# Altium footprint library FC-13532.7680KA-AC-ND.PcbLib: 1 footprints
Each footprint in its own frame and in the unit in brackets; x right, y up, seen from the top. Pads: shape width x height; smd on the part's side, far side on the other; paste and mask are expansions set on the pad; w line width, h text height; cw(c..) or ccw(c..) is an arc to the next point about the centre after c.
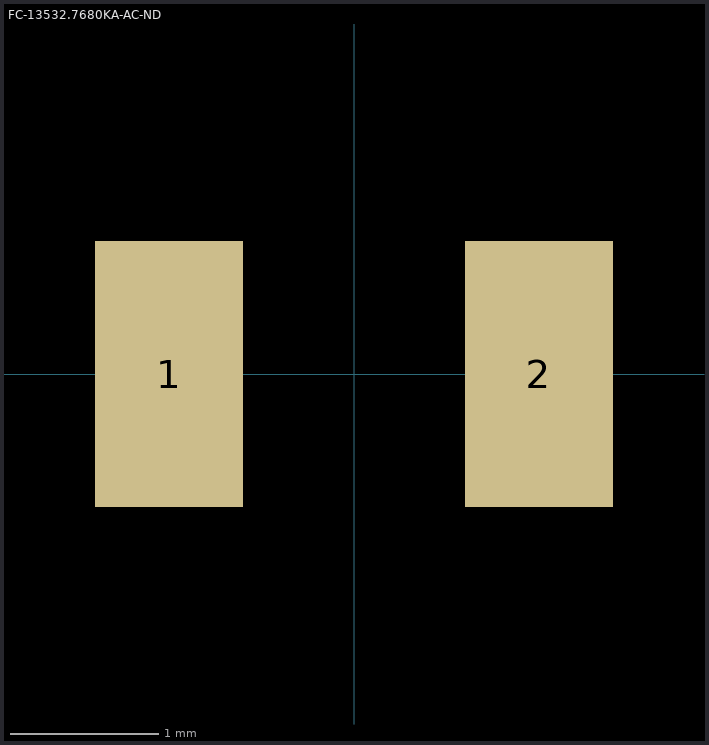
[diagram p0: the footprint, top view; thin cyan lines are the x and y axes]

## FC-13532.7680KA-AC-ND [mm]
pads (2):
  rect 1x1.8 smd: 1(-1.25,0) 2(1.25,0)
3D body: height 0.9, standoff 0, extent -1.6,-0.75 1.6,0.75